# Altium integrated library ON Semi Transient Voltage Suppressors (TVS).IntLib: 730 symbols (part 13 of 17)
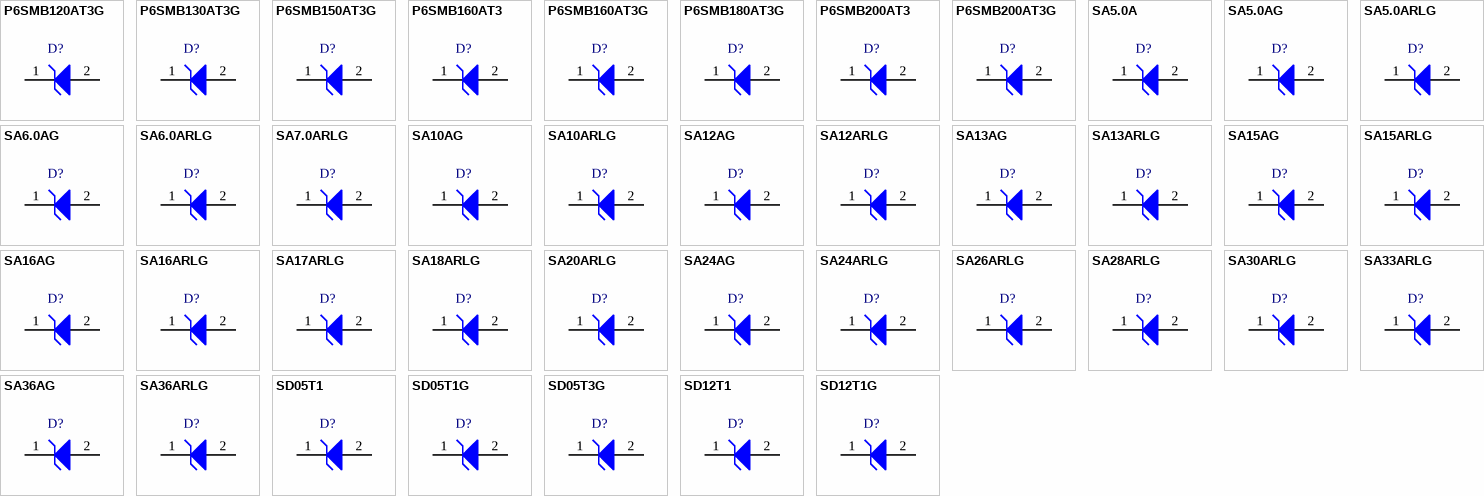
[diagram p30: symbols P6SMB120AT3G to SD12T1G]

## SA5.0AG
designator D?
500 W Peak Power, MiniMOSORB(TM) Zener Transient Voltage Suppressor, Unidirectional, 2-Pin Axial_Lead, Pb-Free, Bulk Box; Manufacturer: On Semiconductor; PartNumber: SA5.0AG; IR Max (uA): 600; PPK Max (W): 500; V(BR) Typ (V): 6.7; DatasheetVersion: Rev. 13; PackageVersion: Rev. A, 02/2007; PackageReference: AXIAL_LEAD-2-59AA-01; PackageDescription: 2-Pin, Axial Lead, Diameter 3.1 mm; Supplier 1: Digi-Key; Supplier Part Number 1: SA5.0AGOS-ND; Supplier 2: Farnell; Supplier Part Number 2: 1459172; Supplier 3: Newark; Supplier Part Number 3: 42K2589; Supplier 4: Mouser; Supplier Part Number 4: 863-SA5.0AG; Direction: Unidirectional; Packing: Bulk Box; RoHS: Pb-Free; Mounting Technology: Through Hole; ComponentLink1Description: Manufacturer URL; ComponentLink1URL: http://www.onsemi.com/; ComponentLink2Description: Datasheet; ComponentLink2URL: http://www.onsemi.com/pub_link/Collateral/SA5.0A-D.PDF; ComponentLink3Description: Package Specification; ComponentLink3URL: http://www.onsemi.com/pub_link/Collateral/59AA.PDF
footprint ONSC-AXIAL_LEAD-2-59AA-01_P (AXIAL, 2-Leads, Diameter 3.1mm)
pins: 1 K, 2 A

## SA5.0ARLG
designator D?
500 W Peak Power, MiniMOSORB(TM) Zener Transient Voltage Suppressor, Unidirectional, 2-Pin Axial_Lead, Pb-Free, Tape and Reel; Manufacturer: On Semiconductor; PartNumber: SA5.0ARLG; IR Max (uA): 600; PPK Max (W): 500; V(BR) Typ (V): 6.7; DatasheetVersion: Rev. 13; PackageVersion: Rev. A, 02/2007; PackageReference: AXIAL_LEAD-2-59AA-01; PackageDescription: 2-Pin, Axial Lead, Diameter 3.1 mm; Supplier 1: Digi-Key; Supplier Part Number 1: SA5.0ARLGOSTR-ND; Supplier 2: Digi-Key; Supplier Part Number 2: SA5.0ARLGOSCT-ND; Supplier 3: Farnell; Supplier Part Number 3: 1150347; Supplier 4: Newark; Supplier Part Number 4: 42K2590; Supplier 5: Mouser; Supplier Part Number 5: 863-SA5.0ARLG; Direction: Unidirectional; Packing: Tape and Reel; RoHS: Pb-Free; Mounting Technology: Through Hole; ComponentLink1Description: Manufacturer URL; ComponentLink1URL: http://www.onsemi.com/; ComponentLink2Description: Datasheet; ComponentLink2URL: http://www.onsemi.com/pub_link/Collateral/SA5.0A-D.PDF; ComponentLink3Description: Package Specification; ComponentLink3URL: http://www.onsemi.com/pub_link/Collateral/59AA.PDF
footprint ONSC-AXIAL_LEAD-2-59AA-01_P (AXIAL, 2-Leads, Diameter 3.1mm)
pins: 1 K, 2 A

## SA6.0AG
designator D?
500 W Peak Power, MiniMOSORB(TM) Zener Transient Voltage Suppressor, Unidirectional, 2-Pin Axial_Lead, Pb-Free, Bulk Box; Manufacturer: On Semiconductor; PartNumber: SA6.0AG; IR Max (uA): 600; PPK Max (W): 500; V(BR) Typ (V): 7.02; DatasheetVersion: Rev. 13; PackageVersion: Rev. A, 02/2007; PackageReference: AXIAL_LEAD-2-59AA-01; PackageDescription: 2-Pin, Axial Lead, Diameter 3.1 mm; Supplier 1: Digi-Key; Supplier Part Number 1: SA6.0AGOS-ND; Supplier 2: Farnell; Supplier Part Number 2: 1150348; Supplier 3: Newark; Supplier Part Number 3: 42K2605; Supplier 4: Mouser; Supplier Part Number 4: 863-SA6.0AG; Direction: Unidirectional; Packing: Bulk Box; RoHS: Pb-Free; Mounting Technology: Through Hole; ComponentLink1Description: Manufacturer URL; ComponentLink1URL: http://www.onsemi.com/; ComponentLink2Description: Datasheet; ComponentLink2URL: http://www.onsemi.com/pub_link/Collateral/SA5.0A-D.PDF; ComponentLink3Description: Package Specification; ComponentLink3URL: http://www.onsemi.com/pub_link/Collateral/59AA.PDF
footprint ONSC-AXIAL_LEAD-2-59AA-01_P (AXIAL, 2-Leads, Diameter 3.1mm)
pins: 1 K, 2 A

## SA6.0ARLG
designator D?
500 W Peak Power, MiniMOSORB(TM) Zener Transient Voltage Suppressor, Unidirectional, 2-Pin Axial_Lead, Pb-Free, Tape and Reel; Manufacturer: On Semiconductor; PartNumber: SA6.0ARLG; IR Max (uA): 600; PPK Max (W): 500; V(BR) Typ (V): 7.02; DatasheetVersion: Rev. 13; PackageVersion: Rev. A, 02/2007; PackageReference: AXIAL_LEAD-2-59AA-01; PackageDescription: 2-Pin, Axial Lead, Diameter 3.1 mm; Supplier 1: Digi-Key; Supplier Part Number 1: SA6.0ARLG-ND; Supplier 2: Newark; Supplier Part Number 2: 42K2606; Supplier 3: Mouser; Supplier Part Number 3: 863-SA6.0ARLG; Direction: Unidirectional; Packing: Tape and Reel; RoHS: Pb-Free; Mounting Technology: Through Hole; ComponentLink1Description: Manufacturer URL; ComponentLink1URL: http://www.onsemi.com/; ComponentLink2Description: Datasheet; ComponentLink2URL: http://www.onsemi.com/pub_link/Collateral/SA5.0A-D.PDF; ComponentLink3Description: Package Specification; ComponentLink3URL: http://www.onsemi.com/pub_link/Collateral/59AA.PDF
footprint ONSC-AXIAL_LEAD-2-59AA-01_P (AXIAL, 2-Leads, Diameter 3.1mm)
pins: 1 K, 2 A

## SA7.0ARLG
designator D?
500 W Peak Power, MiniMOSORB(TM) Zener Transient Voltage Suppressor, Unidirectional, 2-Pin Axial_Lead, Pb-Free, Tape and Reel; Manufacturer: On Semiconductor; PartNumber: SA7.0ARLG; IR Max (uA): 150; PPK Max (W): 500; V(BR) Typ (V): 8.19; DatasheetVersion: Rev. 13; PackageVersion: Rev. A, 02/2007; PackageReference: AXIAL_LEAD-2-59AA-01; PackageDescription: 2-Pin, Axial Lead, Diameter 3.1 mm; Supplier 1: Digi-Key; Supplier Part Number 1: SA7.0ARLG-ND; Supplier 2: Newark; Supplier Part Number 2: 42K2608; Supplier 3: Mouser; Supplier Part Number 3: 863-SA7.0ARLG; Direction: Unidirectional; Packing: Tape and Reel; RoHS: Pb-Free; Mounting Technology: Through Hole; ComponentLink1Description: Manufacturer URL; ComponentLink1URL: http://www.onsemi.com/; ComponentLink2Description: Datasheet; ComponentLink2URL: http://www.onsemi.com/pub_link/Collateral/SA5.0A-D.PDF; ComponentLink3Description: Package Specification; ComponentLink3URL: http://www.onsemi.com/pub_link/Collateral/59AA.PDF
footprint ONSC-AXIAL_LEAD-2-59AA-01_P (AXIAL, 2-Leads, Diameter 3.1mm)
pins: 1 K, 2 A

## SA10AG
designator D?
500 W Peak Power, MiniMOSORB(TM) Zener Transient Voltage Suppressor, Unidirectional, 2-Pin Axial_Lead, Pb-Free, Bulk Box; Manufacturer: On Semiconductor; PartNumber: SA10AG; IR Max (uA): 1; PPK Max (W): 500; V(BR) Typ (V): 11.7; DatasheetVersion: Rev. 13; PackageVersion: Rev. A, 02/2007; PackageReference: AXIAL_LEAD-2-59AA-01; PackageDescription: 2-Pin, Axial Lead, Diameter 3.1 mm; Supplier 1: Digi-Key; Supplier Part Number 1: SA10AGOS-ND; Supplier 2: Mouser; Supplier Part Number 2: 863-SA10AG; Direction: Unidirectional; Packing: Bulk Box; RoHS: Pb-Free; Mounting Technology: Through Hole; ComponentLink1Description: Manufacturer URL; ComponentLink1URL: http://www.onsemi.com/; ComponentLink2Description: Datasheet; ComponentLink2URL: http://www.onsemi.com/pub_link/Collateral/SA5.0A-D.PDF; ComponentLink3Description: Package Specification; ComponentLink3URL: http://www.onsemi.com/pub_link/Collateral/59AA.PDF
footprint ONSC-AXIAL_LEAD-2-59AA-01_P (AXIAL, 2-Leads, Diameter 3.1mm)
pins: 1 K, 2 A

## SA10ARLG
designator D?
500 W Peak Power, MiniMOSORB(TM) Zener Transient Voltage Suppressor, Unidirectional, 2-Pin Axial_Lead, Pb-Free, Tape and Reel; Manufacturer: On Semiconductor; PartNumber: SA10ARLG; IR Max (uA): 1; PPK Max (W): 500; V(BR) Typ (V): 11.7; DatasheetVersion: Rev. 13; PackageVersion: Rev. A, 02/2007; PackageReference: AXIAL_LEAD-2-59AA-01; PackageDescription: 2-Pin, Axial Lead, Diameter 3.1 mm; Supplier 1: Digi-Key; Supplier Part Number 1: SA10ARLG-ND; Supplier 2: Newark; Supplier Part Number 2: 42K2558; Supplier 3: Mouser; Supplier Part Number 3: 863-SA10ARLG; Direction: Unidirectional; Packing: Tape and Reel; RoHS: Pb-Free; Mounting Technology: Through Hole; ComponentLink1Description: Manufacturer URL; ComponentLink1URL: http://www.onsemi.com/; ComponentLink2Description: Datasheet; ComponentLink2URL: http://www.onsemi.com/pub_link/Collateral/SA5.0A-D.PDF; ComponentLink3Description: Package Specification; ComponentLink3URL: http://www.onsemi.com/pub_link/Collateral/59AA.PDF
footprint ONSC-AXIAL_LEAD-2-59AA-01_P (AXIAL, 2-Leads, Diameter 3.1mm)
pins: 1 K, 2 A

## SA12AG
designator D?
500 W Peak Power, MiniMOSORB(TM) Zener Transient Voltage Suppressor, Unidirectional, 2-Pin Axial_Lead, Pb-Free, Bulk Box; Manufacturer: On Semiconductor; PartNumber: SA12AG; IR Max (uA): 1; PPK Max (W): 500; V(BR) Typ (V): 14; DatasheetVersion: Rev. 13; PackageVersion: Rev. A, 02/2007; PackageReference: AXIAL_LEAD-2-59AA-01; PackageDescription: 2-Pin, Axial Lead, Diameter 3.1 mm; Supplier 1: Digi-Key; Supplier Part Number 1: SA12AGOS-ND; Supplier 2: Newark; Supplier Part Number 2: 42K2561; Supplier 3: Mouser; Supplier Part Number 3: 863-SA12AG; Direction: Unidirectional; Packing: Bulk Box; RoHS: Pb-Free; Mounting Technology: Through Hole; ComponentLink1Description: Manufacturer URL; ComponentLink1URL: http://www.onsemi.com/; ComponentLink2Description: Datasheet; ComponentLink2URL: http://www.onsemi.com/pub_link/Collateral/SA5.0A-D.PDF; ComponentLink3Description: Package Specification; ComponentLink3URL: http://www.onsemi.com/pub_link/Collateral/59AA.PDF
footprint ONSC-AXIAL_LEAD-2-59AA-01_P (AXIAL, 2-Leads, Diameter 3.1mm)
pins: 1 K, 2 A

## SA12ARLG
designator D?
500 W Peak Power, MiniMOSORB(TM) Zener Transient Voltage Suppressor, Unidirectional, 2-Pin Axial_Lead, Pb-Free, Tape and Reel; Manufacturer: On Semiconductor; PartNumber: SA12ARLG; IR Max (uA): 1; PPK Max (W): 500; V(BR) Typ (V): 14; DatasheetVersion: Rev. 13; PackageVersion: Rev. A, 02/2007; PackageReference: AXIAL_LEAD-2-59AA-01; PackageDescription: 2-Pin, Axial Lead, Diameter 3.1 mm; Supplier 1: Digi-Key; Supplier Part Number 1: SA12ARLG-ND; Supplier 2: Newark; Supplier Part Number 2: 42K2562; Supplier 3: Mouser; Supplier Part Number 3: 863-SA12ARLG; Direction: Unidirectional; Packing: Tape and Reel; RoHS: Pb-Free; Mounting Technology: Through Hole; ComponentLink1Description: Manufacturer URL; ComponentLink1URL: http://www.onsemi.com/; ComponentLink2Description: Datasheet; ComponentLink2URL: http://www.onsemi.com/pub_link/Collateral/SA5.0A-D.PDF; ComponentLink3Description: Package Specification; ComponentLink3URL: http://www.onsemi.com/pub_link/Collateral/59AA.PDF
footprint ONSC-AXIAL_LEAD-2-59AA-01_P (AXIAL, 2-Leads, Diameter 3.1mm)
pins: 1 K, 2 A

## SA13AG
designator D?
500 W Peak Power, MiniMOSORB(TM) Zener Transient Voltage Suppressor, Unidirectional, 2-Pin Axial_Lead, Pb-Free, Bulk Box; Manufacturer: On Semiconductor; PartNumber: SA13AG; IR Max (uA): 1; PPK Max (W): 500; V(BR) Typ (V): 15.15; DatasheetVersion: Rev. 13; PackageVersion: Rev. A, 02/2007; PackageReference: AXIAL_LEAD-2-59AA-01; PackageDescription: 2-Pin, Axial Lead, Diameter 3.1 mm; Supplier 1: Digi-Key; Supplier Part Number 1: SA13AGOS-ND; Supplier 2: Mouser; Supplier Part Number 2: 863-SA13AG; Direction: Unidirectional; Packing: Bulk Box; RoHS: Pb-Free; Mounting Technology: Through Hole; ComponentLink1Description: Manufacturer URL; ComponentLink1URL: http://www.onsemi.com/; ComponentLink2Description: Datasheet; ComponentLink2URL: http://www.onsemi.com/pub_link/Collateral/SA5.0A-D.PDF; ComponentLink3Description: Package Specification; ComponentLink3URL: http://www.onsemi.com/pub_link/Collateral/59AA.PDF
footprint ONSC-AXIAL_LEAD-2-59AA-01_P (AXIAL, 2-Leads, Diameter 3.1mm)
pins: 1 K, 2 A

## SA13ARLG
designator D?
500 W Peak Power, MiniMOSORB(TM) Zener Transient Voltage Suppressor, Unidirectional, 2-Pin Axial_Lead, Pb-Free, Tape and Reel; Manufacturer: On Semiconductor; PartNumber: SA13ARLG; IR Max (uA): 1; PPK Max (W): 500; V(BR) Typ (V): 15.15; DatasheetVersion: Rev. 13; PackageVersion: Rev. A, 02/2007; PackageReference: AXIAL_LEAD-2-59AA-01; PackageDescription: 2-Pin, Axial Lead, Diameter 3.1 mm; Supplier 1: Digi-Key; Supplier Part Number 1: SA13ARLG-ND; Supplier 2: Mouser; Supplier Part Number 2: 863-SA13ARLG; Direction: Unidirectional; Packing: Tape and Reel; RoHS: Pb-Free; Mounting Technology: Through Hole; ComponentLink1Description: Manufacturer URL; ComponentLink1URL: http://www.onsemi.com/; ComponentLink2Description: Datasheet; ComponentLink2URL: http://www.onsemi.com/pub_link/Collateral/SA5.0A-D.PDF; ComponentLink3Description: Package Specification; ComponentLink3URL: http://www.onsemi.com/pub_link/Collateral/59AA.PDF
footprint ONSC-AXIAL_LEAD-2-59AA-01_P (AXIAL, 2-Leads, Diameter 3.1mm)
pins: 1 K, 2 A

## SA15AG
designator D?
500 W Peak Power, MiniMOSORB(TM) Zener Transient Voltage Suppressor, Unidirectional, 2-Pin Axial_Lead, Pb-Free, Bulk Box; Manufacturer: On Semiconductor; PartNumber: SA15AG; IR Max (uA): 1; PPK Max (W): 500; V(BR) Typ (V): 17.6; DatasheetVersion: Rev. 13; PackageVersion: Rev. A, 02/2007; PackageReference: AXIAL_LEAD-2-59AA-01; PackageDescription: 2-Pin, Axial Lead, Diameter 3.1 mm; Supplier 1: Digi-Key; Supplier Part Number 1: SA15AGOS-ND; Supplier 2: Newark; Supplier Part Number 2: 42K2566; Supplier 3: Mouser; Supplier Part Number 3: 863-SA15AG; Direction: Unidirectional; Packing: Bulk Box; RoHS: Pb-Free; Mounting Technology: Through Hole; ComponentLink1Description: Manufacturer URL; ComponentLink1URL: http://www.onsemi.com/; ComponentLink2Description: Datasheet; ComponentLink2URL: http://www.onsemi.com/pub_link/Collateral/SA5.0A-D.PDF; ComponentLink3Description: Package Specification; ComponentLink3URL: http://www.onsemi.com/pub_link/Collateral/59AA.PDF
footprint ONSC-AXIAL_LEAD-2-59AA-01_P (AXIAL, 2-Leads, Diameter 3.1mm)
pins: 1 K, 2 A

## SA15ARLG
designator D?
500 W Peak Power, MiniMOSORB(TM) Zener Transient Voltage Suppressor, Unidirectional, 2-Pin Axial_Lead, Pb-Free, Tape and Reel; Manufacturer: On Semiconductor; PartNumber: SA15ARLG; IR Max (uA): 1; PPK Max (W): 500; V(BR) Typ (V): 17.6; DatasheetVersion: Rev. 13; PackageVersion: Rev. A, 02/2007; PackageReference: AXIAL_LEAD-2-59AA-01; PackageDescription: 2-Pin, Axial Lead, Diameter 3.1 mm; Supplier 1: Digi-Key; Supplier Part Number 1: SA15ARLG-ND; Supplier 2: Newark; Supplier Part Number 2: 42K2567; Supplier 3: Mouser; Supplier Part Number 3: 863-SA15ARLG; Direction: Unidirectional; Packing: Tape and Reel; RoHS: Pb-Free; Mounting Technology: Through Hole; ComponentLink1Description: Manufacturer URL; ComponentLink1URL: http://www.onsemi.com/; ComponentLink2Description: Datasheet; ComponentLink2URL: http://www.onsemi.com/pub_link/Collateral/SA5.0A-D.PDF; ComponentLink3Description: Package Specification; ComponentLink3URL: http://www.onsemi.com/pub_link/Collateral/59AA.PDF
footprint ONSC-AXIAL_LEAD-2-59AA-01_P (AXIAL, 2-Leads, Diameter 3.1mm)
pins: 1 K, 2 A

## SA16AG
designator D?
500 W Peak Power, MiniMOSORB(TM) Zener Transient Voltage Suppressor, Unidirectional, 2-Pin Axial_Lead, Pb-Free, Bulk Box; Manufacturer: On Semiconductor; PartNumber: SA16AG; IR Max (uA): 1; PPK Max (W): 500; V(BR) Typ (V): 18.75; DatasheetVersion: Rev. 13; PackageVersion: Rev. A, 02/2007; PackageReference: AXIAL_LEAD-2-59AA-01; PackageDescription: 2-Pin, Axial Lead, Diameter 3.1 mm; Supplier 1: Digi-Key; Supplier Part Number 1: SA16AG-ND; Supplier 2: Mouser; Supplier Part Number 2: 863-SA16AG; Direction: Unidirectional; Packing: Bulk Box; RoHS: Pb-Free; Mounting Technology: Through Hole; ComponentLink1Description: Manufacturer URL; ComponentLink1URL: http://www.onsemi.com/; ComponentLink2Description: Datasheet; ComponentLink2URL: http://www.onsemi.com/pub_link/Collateral/SA5.0A-D.PDF; ComponentLink3Description: Package Specification; ComponentLink3URL: http://www.onsemi.com/pub_link/Collateral/59AA.PDF
footprint ONSC-AXIAL_LEAD-2-59AA-01_P (AXIAL, 2-Leads, Diameter 3.1mm)
pins: 1 K, 2 A

## SA16ARLG
designator D?
500 W Peak Power, MiniMOSORB(TM) Zener Transient Voltage Suppressor, Unidirectional, 2-Pin Axial_Lead, Pb-Free, Tape and Reel; Manufacturer: On Semiconductor; PartNumber: SA16ARLG; IR Max (uA): 1; PPK Max (W): 500; V(BR) Typ (V): 18.75; DatasheetVersion: Rev. 13; PackageVersion: Rev. A, 02/2007; PackageReference: AXIAL_LEAD-2-59AA-01; PackageDescription: 2-Pin, Axial Lead, Diameter 3.1 mm; Supplier 1: Digi-Key; Supplier Part Number 1: SA16ARLGOSTR-ND; Supplier 2: Digi-Key; Supplier Part Number 2: SA16ARLGOSCT-ND; Supplier 3: Mouser; Supplier Part Number 3: 863-SA16ARLG; Direction: Unidirectional; Packing: Tape and Reel; RoHS: Pb-Free; Mounting Technology: Through Hole; ComponentLink1Description: Manufacturer URL; ComponentLink1URL: http://www.onsemi.com/; ComponentLink2Description: Datasheet; ComponentLink2URL: http://www.onsemi.com/pub_link/Collateral/SA5.0A-D.PDF; ComponentLink3Description: Package Specification; ComponentLink3URL: http://www.onsemi.com/pub_link/Collateral/59AA.PDF
footprint ONSC-AXIAL_LEAD-2-59AA-01_P (AXIAL, 2-Leads, Diameter 3.1mm)
pins: 1 K, 2 A

## SA17ARLG
designator D?
500 W Peak Power, MiniMOSORB(TM) Zener Transient Voltage Suppressor, Unidirectional, 2-Pin Axial_Lead, Pb-Free, Tape and Reel; Manufacturer: On Semiconductor; PartNumber: SA17ARLG; IR Max (uA): 1; PPK Max (W): 500; V(BR) Typ (V): 19.9; DatasheetVersion: Rev. 13; PackageVersion: Rev. A, 02/2007; PackageReference: AXIAL_LEAD-2-59AA-01; PackageDescription: 2-Pin, Axial Lead, Diameter 3.1 mm; Supplier 1: Digi-Key; Supplier Part Number 1: SA17ARLG-ND; Supplier 2: Newark; Supplier Part Number 2: 42K2570; Supplier 3: Mouser; Supplier Part Number 3: 863-SA17ARLG; Direction: Unidirectional; Packing: Tape and Reel; RoHS: Pb-Free; Mounting Technology: Through Hole; ComponentLink1Description: Manufacturer URL; ComponentLink1URL: http://www.onsemi.com/; ComponentLink2Description: Datasheet; ComponentLink2URL: http://www.onsemi.com/pub_link/Collateral/SA5.0A-D.PDF; ComponentLink3Description: Package Specification; ComponentLink3URL: http://www.onsemi.com/pub_link/Collateral/59AA.PDF
footprint ONSC-AXIAL_LEAD-2-59AA-01_P (AXIAL, 2-Leads, Diameter 3.1mm)
pins: 1 K, 2 A

## SA18ARLG
designator D?
500 W Peak Power, MiniMOSORB(TM) Zener Transient Voltage Suppressor, Unidirectional, 2-Pin Axial_Lead, Pb-Free, Tape and Reel; Manufacturer: On Semiconductor; PartNumber: SA18ARLG; IR Max (uA): 1; PPK Max (W): 500; V(BR) Typ (V): 21.05; DatasheetVersion: Rev. 13; PackageVersion: Rev. A, 02/2007; PackageReference: AXIAL_LEAD-2-59AA-01; PackageDescription: 2-Pin, Axial Lead, Diameter 3.1 mm; Supplier 1: Digi-Key; Supplier Part Number 1: SA18ARLG-ND; Supplier 2: Mouser; Supplier Part Number 2: 863-SA18ARLG; Direction: Unidirectional; Packing: Tape and Reel; RoHS: Pb-Free; Mounting Technology: Through Hole; ComponentLink1Description: Manufacturer URL; ComponentLink1URL: http://www.onsemi.com/; ComponentLink2Description: Datasheet; ComponentLink2URL: http://www.onsemi.com/pub_link/Collateral/SA5.0A-D.PDF; ComponentLink3Description: Package Specification; ComponentLink3URL: http://www.onsemi.com/pub_link/Collateral/59AA.PDF
footprint ONSC-AXIAL_LEAD-2-59AA-01_P (AXIAL, 2-Leads, Diameter 3.1mm)
pins: 1 K, 2 A

## SA20ARLG
designator D?
500 W Peak Power, MiniMOSORB(TM) Zener Transient Voltage Suppressor, Unidirectional, 2-Pin Axial_Lead, Pb-Free, Tape and Reel; Manufacturer: On Semiconductor; PartNumber: SA20ARLG; IR Max (uA): 1; PPK Max (W): 500; V(BR) Typ (V): 23.35; DatasheetVersion: Rev. 13; PackageVersion: Rev. A, 02/2007; PackageReference: AXIAL_LEAD-2-59AA-01; PackageDescription: 2-Pin, Axial Lead, Diameter 3.1 mm; Supplier 1: Digi-Key; Supplier Part Number 1: SA20ARLG-ND; Supplier 2: Mouser; Supplier Part Number 2: 863-SA20ARLG; Direction: Unidirectional; Packing: Tape and Reel; RoHS: Pb-Free; Mounting Technology: Through Hole; ComponentLink1Description: Manufacturer URL; ComponentLink1URL: http://www.onsemi.com/; ComponentLink2Description: Datasheet; ComponentLink2URL: http://www.onsemi.com/pub_link/Collateral/SA5.0A-D.PDF; ComponentLink3Description: Package Specification; ComponentLink3URL: http://www.onsemi.com/pub_link/Collateral/59AA.PDF
footprint ONSC-AXIAL_LEAD-2-59AA-01_P (AXIAL, 2-Leads, Diameter 3.1mm)
pins: 1 K, 2 A

## SA24AG
designator D?
500 W Peak Power, MiniMOSORB(TM) Zener Transient Voltage Suppressor, Unidirectional, 2-Pin Axial_Lead, Pb-Free, Bulk Box; Manufacturer: On Semiconductor; PartNumber: SA24AG; IR Max (uA): 1; PPK Max (W): 500; V(BR) Typ (V): 28.1; DatasheetVersion: Rev. 13; PackageVersion: Rev. A, 02/2007; PackageReference: AXIAL_LEAD-2-59AA-01; PackageDescription: 2-Pin, Axial Lead, Diameter 3.1 mm; Supplier 1: Digi-Key; Supplier Part Number 1: SA24AGOS-ND; Supplier 2: Farnell; Supplier Part Number 2: 1126279; Supplier 3: Newark; Supplier Part Number 3: 42K2574; Supplier 4: Mouser; Supplier Part Number 4: 863-SA24AG; Direction: Unidirectional; Packing: Bulk Box; RoHS: Pb-Free; Mounting Technology: Through Hole; ComponentLink1Description: Manufacturer URL; ComponentLink1URL: http://www.onsemi.com/; ComponentLink2Description: Datasheet; ComponentLink2URL: http://www.onsemi.com/pub_link/Collateral/SA5.0A-D.PDF; ComponentLink3Description: Package Specification; ComponentLink3URL: http://www.onsemi.com/pub_link/Collateral/59AA.PDF
footprint ONSC-AXIAL_LEAD-2-59AA-01_P (AXIAL, 2-Leads, Diameter 3.1mm)
pins: 1 K, 2 A

## SA24ARLG
designator D?
500 W Peak Power, MiniMOSORB(TM) Zener Transient Voltage Suppressor, Unidirectional, 2-Pin Axial_Lead, Pb-Free, Tape and Reel; Manufacturer: On Semiconductor; PartNumber: SA24ARLG; IR Max (uA): 1; PPK Max (W): 500; V(BR) Typ (V): 28.1; DatasheetVersion: Rev. 13; PackageVersion: Rev. A, 02/2007; PackageReference: AXIAL_LEAD-2-59AA-01; PackageDescription: 2-Pin, Axial Lead, Diameter 3.1 mm; Supplier 1: Digi-Key; Supplier Part Number 1: SA24ARLG-ND; Supplier 2: Newark; Supplier Part Number 2: 42K2575; Supplier 3: Mouser; Supplier Part Number 3: 863-SA24ARLG; Direction: Unidirectional; Packing: Tape and Reel; RoHS: Pb-Free; Mounting Technology: Through Hole; ComponentLink1Description: Manufacturer URL; ComponentLink1URL: http://www.onsemi.com/; ComponentLink2Description: Datasheet; ComponentLink2URL: http://www.onsemi.com/pub_link/Collateral/SA5.0A-D.PDF; ComponentLink3Description: Package Specification; ComponentLink3URL: http://www.onsemi.com/pub_link/Collateral/59AA.PDF
footprint ONSC-AXIAL_LEAD-2-59AA-01_P (AXIAL, 2-Leads, Diameter 3.1mm)
pins: 1 K, 2 A

## SA26ARLG
designator D?
500 W Peak Power, MiniMOSORB(TM) Zener Transient Voltage Suppressor, Unidirectional, 2-Pin Axial_Lead, Pb-Free, Tape and Reel; Manufacturer: On Semiconductor; PartNumber: SA26ARLG; IR Max (uA): 1; PPK Max (W): 500; V(BR) Typ (V): 30.4; DatasheetVersion: Rev. 13; PackageVersion: Rev. A, 02/2007; PackageReference: AXIAL_LEAD-2-59AA-01; PackageDescription: 2-Pin, Axial Lead, Diameter 3.1 mm; Supplier 1: Digi-Key; Supplier Part Number 1: SA26ARLG-ND; Supplier 2: Newark; Supplier Part Number 2: 42K2576; Supplier 3: Mouser; Supplier Part Number 3: 863-SA26ARLG; Direction: Unidirectional; Packing: Tape and Reel; RoHS: Pb-Free; Mounting Technology: Through Hole; ComponentLink1Description: Manufacturer URL; ComponentLink1URL: http://www.onsemi.com/; ComponentLink2Description: Datasheet; ComponentLink2URL: http://www.onsemi.com/pub_link/Collateral/SA5.0A-D.PDF; ComponentLink3Description: Package Specification; ComponentLink3URL: http://www.onsemi.com/pub_link/Collateral/59AA.PDF
footprint ONSC-AXIAL_LEAD-2-59AA-01_P (AXIAL, 2-Leads, Diameter 3.1mm)
pins: 1 K, 2 A

## SA28ARLG
designator D?
500 W Peak Power, MiniMOSORB(TM) Zener Transient Voltage Suppressor, Unidirectional, 2-Pin Axial_Lead, Pb-Free, Tape and Reel; Manufacturer: On Semiconductor; PartNumber: SA28ARLG; IR Max (uA): 1; PPK Max (W): 500; V(BR) Typ (V): 32.75; DatasheetVersion: Rev. 13; PackageVersion: Rev. A, 02/2007; PackageReference: AXIAL_LEAD-2-59AA-01; PackageDescription: 2-Pin, Axial Lead, Diameter 3.1 mm; Supplier 1: Digi-Key; Supplier Part Number 1: SA28ARLGOSTR-ND; Supplier 2: Digi-Key; Supplier Part Number 2: SA28ARLGOSCT-ND; Supplier 3: Newark; Supplier Part Number 3: 42K2578; Supplier 4: Mouser; Supplier Part Number 4: 863-SA28ARLG; Direction: Unidirectional; Packing: Tape and Reel; RoHS: Pb-Free; Mounting Technology: Through Hole; ComponentLink1Description: Manufacturer URL; ComponentLink1URL: http://www.onsemi.com/; ComponentLink2Description: Datasheet; ComponentLink2URL: http://www.onsemi.com/pub_link/Collateral/SA5.0A-D.PDF; ComponentLink3Description: Package Specification; ComponentLink3URL: http://www.onsemi.com/pub_link/Collateral/59AA.PDF
footprint ONSC-AXIAL_LEAD-2-59AA-01_P (AXIAL, 2-Leads, Diameter 3.1mm)
pins: 1 K, 2 A

## SA30ARLG
designator D?
500 W Peak Power, MiniMOSORB(TM) Zener Transient Voltage Suppressor, Unidirectional, 2-Pin Axial_Lead, Pb-Free, Tape and Reel; Manufacturer: On Semiconductor; PartNumber: SA30ARLG; IR Max (uA): 1; PPK Max (W): 500; V(BR) Typ (V): 35.05; DatasheetVersion: Rev. 13; PackageVersion: Rev. A, 02/2007; PackageReference: AXIAL_LEAD-2-59AA-01; PackageDescription: 2-Pin, Axial Lead, Diameter 3.1 mm; Supplier 1: Digi-Key; Supplier Part Number 1: SA30ARLG-ND; Supplier 2: Newark; Supplier Part Number 2: 42K2579; Supplier 3: Mouser; Supplier Part Number 3: 863-SA30ARLG; Direction: Unidirectional; Packing: Tape and Reel; RoHS: Pb-Free; Mounting Technology: Through Hole; ComponentLink1Description: Manufacturer URL; ComponentLink1URL: http://www.onsemi.com/; ComponentLink2Description: Datasheet; ComponentLink2URL: http://www.onsemi.com/pub_link/Collateral/SA5.0A-D.PDF; ComponentLink3Description: Package Specification; ComponentLink3URL: http://www.onsemi.com/pub_link/Collateral/59AA.PDF
footprint ONSC-AXIAL_LEAD-2-59AA-01_P (AXIAL, 2-Leads, Diameter 3.1mm)
pins: 1 K, 2 A

## SA33ARLG
designator D?
500 W Peak Power, MiniMOSORB(TM) Zener Transient Voltage Suppressor, Unidirectional, 2-Pin Axial_Lead, Pb-Free, Tape and Reel; Manufacturer: On Semiconductor; PartNumber: SA33ARLG; IR Max (uA): 1; PPK Max (W): 500; V(BR) Typ (V): 38.65; DatasheetVersion: Rev. 13; PackageVersion: Rev. A, 02/2007; PackageReference: AXIAL_LEAD-2-59AA-01; PackageDescription: 2-Pin, Axial Lead, Diameter 3.1 mm; Supplier 1: Digi-Key; Supplier Part Number 1: SA33ARLG-ND; Supplier 2: Mouser; Supplier Part Number 2: 863-SA33ARLG; Direction: Unidirectional; Packing: Tape and Reel; RoHS: Pb-Free; Mounting Technology: Through Hole; ComponentLink1Description: Manufacturer URL; ComponentLink1URL: http://www.onsemi.com/; ComponentLink2Description: Datasheet; ComponentLink2URL: http://www.onsemi.com/pub_link/Collateral/SA5.0A-D.PDF; ComponentLink3Description: Package Specification; ComponentLink3URL: http://www.onsemi.com/pub_link/Collateral/59AA.PDF
footprint ONSC-AXIAL_LEAD-2-59AA-01_P (AXIAL, 2-Leads, Diameter 3.1mm)
pins: 1 K, 2 A

## SA36AG
designator D?
500 W Peak Power, MiniMOSORB(TM) Zener Transient Voltage Suppressor, Unidirectional, 2-Pin Axial_Lead, Pb-Free, Bulk Box; Manufacturer: On Semiconductor; PartNumber: SA36AG; IR Max (uA): 1; PPK Max (W): 500; V(BR) Typ (V): 42.1; DatasheetVersion: Rev. 13; PackageVersion: Rev. A, 02/2007; PackageReference: AXIAL_LEAD-2-59AA-01; PackageDescription: 2-Pin, Axial Lead, Diameter 3.1 mm; Supplier 1: Digi-Key; Supplier Part Number 1: SA36AGOS-ND; Supplier 2: Newark; Supplier Part Number 2: 42K2583; Supplier 3: Mouser; Supplier Part Number 3: 863-SA36AG; Direction: Unidirectional; Packing: Bulk Box; RoHS: Pb-Free; Mounting Technology: Through Hole; ComponentLink1Description: Manufacturer URL; ComponentLink1URL: http://www.onsemi.com/; ComponentLink2Description: Datasheet; ComponentLink2URL: http://www.onsemi.com/pub_link/Collateral/SA5.0A-D.PDF; ComponentLink3Description: Package Specification; ComponentLink3URL: http://www.onsemi.com/pub_link/Collateral/59AA.PDF
footprint ONSC-AXIAL_LEAD-2-59AA-01_P (AXIAL, 2-Leads, Diameter 3.1mm)
pins: 1 K, 2 A

## SA36ARLG
designator D?
500 W Peak Power, MiniMOSORB(TM) Zener Transient Voltage Suppressor, Unidirectional, 2-Pin Axial_Lead, Pb-Free, Tape and Reel; Manufacturer: On Semiconductor; PartNumber: SA36ARLG; IR Max (uA): 1; PPK Max (W): 500; V(BR) Typ (V): 42.1; DatasheetVersion: Rev. 13; PackageVersion: Rev. A, 02/2007; PackageReference: AXIAL_LEAD-2-59AA-01; PackageDescription: 2-Pin, Axial Lead, Diameter 3.1 mm; Supplier 1: Digi-Key; Supplier Part Number 1: SA36ARLG-ND; Supplier 2: Mouser; Supplier Part Number 2: 863-SA36ARLG; Direction: Unidirectional; Packing: Tape and Reel; RoHS: Pb-Free; Mounting Technology: Through Hole; ComponentLink1Description: Manufacturer URL; ComponentLink1URL: http://www.onsemi.com/; ComponentLink2Description: Datasheet; ComponentLink2URL: http://www.onsemi.com/pub_link/Collateral/SA5.0A-D.PDF; ComponentLink3Description: Package Specification; ComponentLink3URL: http://www.onsemi.com/pub_link/Collateral/59AA.PDF
footprint ONSC-AXIAL_LEAD-2-59AA-01_P (AXIAL, 2-Leads, Diameter 3.1mm)
pins: 1 K, 2 A

## SD05T1
designator D?
Transient Voltage Suppressor Diode, for ESD Protection, 2-Pin SOD-323, Tape and Reel; Manufacturer: On Semiconductor; PartNumber: SD05T1; Direction: Unidirectional; IR Max (uA): 10; PPK Max (W): 350; DatasheetVersion: Rev. 2; PackageVersion: Rev. G, 02/2005; PackageReference: SOD-323-2-477-02_G; PackageDescription: 2-Pin SOD, Body 1.7 x 1.25 mm; Supplier 1: Digi-Key; Supplier Part Number 1: SD05T1OSTR-ND; Supplier 2: Digi-Key; Supplier Part Number 2: SD05T1OSCT-ND; Packing: Tape and Reel; Mounting Technology: Surface Mount; ComponentLink1Description: Manufacturer URL; ComponentLink1URL: http://www.onsemi.com/; ComponentLink2Description: Datasheet; ComponentLink2URL: http://www.onsemi.com/pub_link/Collateral/SD05T1-D.PDF; ComponentLink3Description: Package Specification; ComponentLink3URL: http://www.onsemi.com/pub_link/Collateral/SD05T1-D.PDF
footprint ONSC-SOD-323-2-477-02_G_V (SOD, 2-Leads, Body 1.7x1.25mm)
pins: 1 K, 2 A

## SD05T1G
designator D?
Transient Voltage Suppressor Diode, for ESD Protection, 2-Pin SOD-323, Pb-Free, Tape and Reel; Manufacturer: On Semiconductor; PartNumber: SD05T1G; Direction: Unidirectional; IR Max (uA): 10; PPK Max (W): 350; DatasheetVersion: Rev. 2; PackageVersion: Rev. G, 02/2005; PackageReference: SOD-323-2-477-02_G; PackageDescription: 2-Pin SOD, Body 1.7 x 1.25 mm; Supplier 1: Digi-Key; Supplier Part Number 1: SD05T1GOSTR-ND; Supplier 2: Digi-Key; Supplier Part Number 2: SD05T1GOSCT-ND; Supplier 3: Digi-Key; Supplier Part Number 3: SD05T1GOSDKR-ND; Supplier 4: Farnell; Supplier Part Number 4: 2317788; Supplier 5: Newark; Supplier Part Number 5: 45J2256; Supplier 6: Newark; Supplier Part Number 6: 10N9602; Supplier 7: Mouser; Supplier Part Number 7: 863-SD05T1G; Packing: Tape and Reel; RoHS: Pb-Free; Mounting Technology: Surface Mount; ComponentLink1Description: Manufacturer URL; ComponentLink1URL: http://www.onsemi.com/; ComponentLink2Description: Datasheet; ComponentLink2URL: http://www.onsemi.com/pub_link/Collateral/SD05T1-D.PDF; ComponentLink3Description: Package Specification; ComponentLink3URL: http://www.onsemi.com/pub_link/Collateral/SD05T1-D.PDF
footprint ONSC-SOD-323-2-477-02_G_V (SOD, 2-Leads, Body 1.7x1.25mm)
pins: 1 K, 2 A

## SD05T3G
designator D?
Transient Voltage Suppressor Diode, for ESD Protection, 2-Pin SOD-323, Pb-Free, Tape and Reel; Manufacturer: On Semiconductor; PartNumber: SD05T3G; Direction: Unidirectional; IR Max (uA): 10; PPK Max (W): 350; DatasheetVersion: Rev. 2; PackageVersion: Rev. G, 02/2005; PackageReference: SOD-323-2-477-02_G; PackageDescription: 2-Pin SOD, Body 1.7 x 1.25 mm; Supplier 1: Mouser; Supplier Part Number 1: 863-SD05T3G; Packing: Tape and Reel; RoHS: Pb-Free; Mounting Technology: Surface Mount; ComponentLink1Description: Manufacturer URL; ComponentLink1URL: http://www.onsemi.com/; ComponentLink2Description: Datasheet; ComponentLink2URL: http://www.onsemi.com/pub_link/Collateral/SD05T1-D.PDF; ComponentLink3Description: Package Specification; ComponentLink3URL: http://www.onsemi.com/pub_link/Collateral/SD05T1-D.PDF
footprint ONSC-SOD-323-2-477-02_G_V (SOD, 2-Leads, Body 1.7x1.25mm)
pins: 1 K, 2 A

## SD12T1
designator D?
Transient Voltage Suppressor Diode, for ESD Protection, 2-Pin SOD-323, Tape and Reel; Manufacturer: On Semiconductor; PartNumber: SD12T1; Direction: Unidirectional; IR Max (uA): 1; PPK Max (W): 350; DatasheetVersion: Rev. 2; PackageVersion: Rev. G, 02/2005; PackageReference: SOD-323-2-477-02_G; PackageDescription: 2-Pin SOD, Body 1.7 x 1.25 mm; Supplier 1: Digi-Key; Supplier Part Number 1: SD12T1OSTR-ND; Supplier 2: Digi-Key; Supplier Part Number 2: SD12T1OSCT-ND; Packing: Tape and Reel; Mounting Technology: Surface Mount; ComponentLink1Description: Manufacturer URL; ComponentLink1URL: http://www.onsemi.com/; ComponentLink2Description: Datasheet; ComponentLink2URL: http://www.onsemi.com/pub_link/Collateral/SD05T1-D.PDF; ComponentLink3Description: Package Specification; ComponentLink3URL: http://www.onsemi.com/pub_link/Collateral/SD05T1-D.PDF
footprint ONSC-SOD-323-2-477-02_G_V (SOD, 2-Leads, Body 1.7x1.25mm)
pins: 1 K, 2 A

## SD12T1G
designator D?
Transient Voltage Suppressor Diode, for ESD Protection, 2-Pin SOD-323, Pb-Free, Tape and Reel; Manufacturer: On Semiconductor; PartNumber: SD12T1G; Direction: Unidirectional; IR Max (uA): 1; PPK Max (W): 350; DatasheetVersion: Rev. 2; PackageVersion: Rev. G, 02/2005; PackageReference: SOD-323-2-477-02_G; PackageDescription: 2-Pin SOD, Body 1.7 x 1.25 mm; Supplier 1: Digi-Key; Supplier Part Number 1: SD12T1GOSTR-ND; Supplier 2: Digi-Key; Supplier Part Number 2: SD12T1GOSCT-ND; Supplier 3: Digi-Key; Supplier Part Number 3: SD12T1GOSDKR-ND; Supplier 4: Newark; Supplier Part Number 4: 10N9604; Supplier 5: Newark; Supplier Part Number 5: 45J2257; Supplier 6: Mouser; Supplier Part Number 6: 863-SD12T1G; Packing: Tape and Reel; RoHS: Pb-Free; Mounting Technology: Surface Mount; ComponentLink1Description: Manufacturer URL; ComponentLink1URL: http://www.onsemi.com/; ComponentLink2Description: Datasheet; ComponentLink2URL: http://www.onsemi.com/pub_link/Collateral/SD05T1-D.PDF; ComponentLink3Description: Package Specification; ComponentLink3URL: http://www.onsemi.com/pub_link/Collateral/SD05T1-D.PDF
footprint ONSC-SOD-323-2-477-02_G_V (SOD, 2-Leads, Body 1.7x1.25mm)
pins: 1 K, 2 A

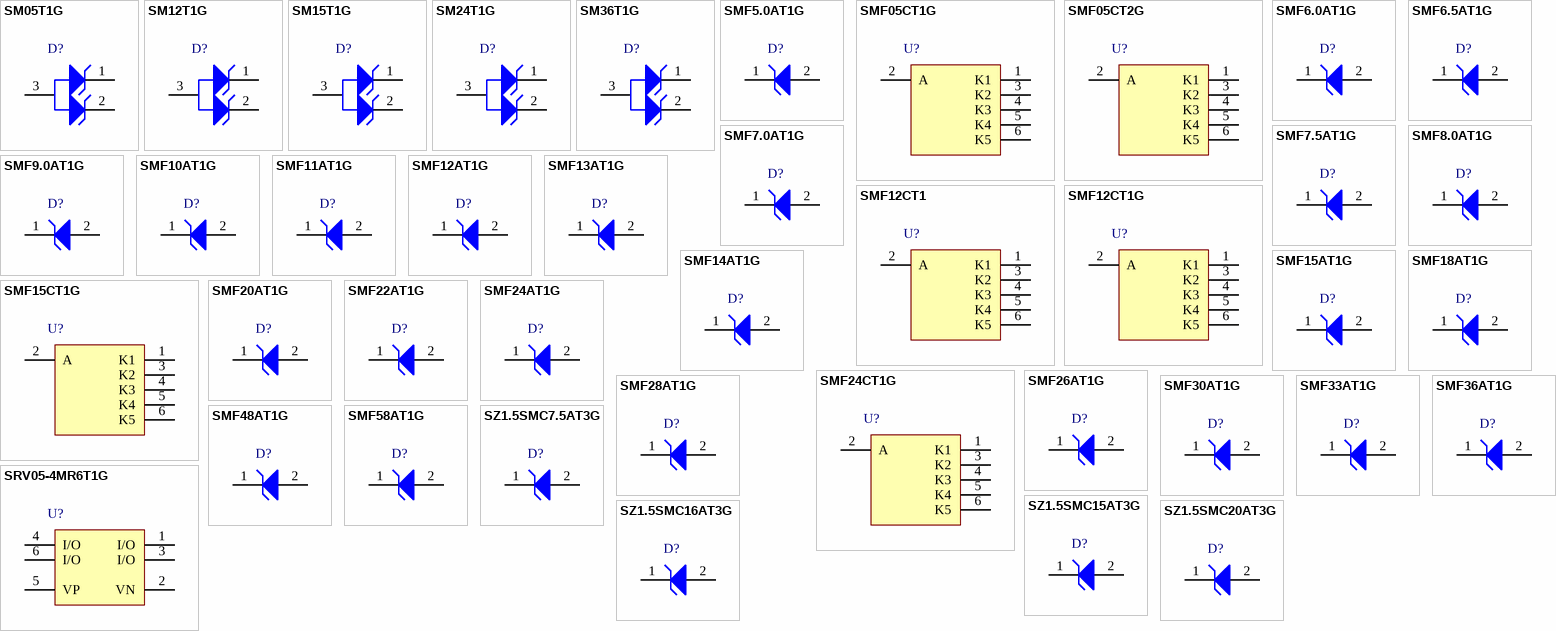
[diagram p14: symbols SM05T1G to SZ1.5SMC20AT3G]

## SM05T1G
designator D?
Transient Voltage Suppressor Diode Array, Dual Common Anode Diodes for ESD Protection, 3-Pin SOT-23, Pb-Free, Tape and Reel; Manufacturer: On Semiconductor; PartNumber: SM05T1G; Direction: Unidirectional; IR Max (uA): 10; PPK Max (W): 300; DatasheetVersion: Rev. 6; PackageVersion: Rev. AP, 11/2009; PackageReference: SOT-23-3-318-08; PackageDescription: 3-Pin Small Outline Transistor, Body 2.92 x 1.3 mm, Pitch 0.95 mm; Supplier 1: Digi-Key; Supplier Part Number 1: SM05T1GOSTR-ND; Supplier 2: Digi-Key; Supplier Part Number 2: SM05T1GOSCT-ND; Supplier 3: Digi-Key; Supplier Part Number 3: SM05T1GOSDKR-ND; Supplier 4: Farnell; Supplier Part Number 4: 2317520; Supplier 5: Farnell; Supplier Part Number 5: 1880534; Supplier 6: Newark; Supplier Part Number 6: 45J2269; Supplier 7: Newark; Supplier Part Number 7: 10N9611; Supplier 8: Mouser; Supplier Part Number 8: 863-SM05T1G; Packing: Tape and Reel; RoHS: Pb-Free; Mounting Technology: Surface Mount; ComponentLink1Description: Manufacturer URL; ComponentLink1URL: http://www.onsemi.com/; ComponentLink2Description: Datasheet; ComponentLink2URL: http://www.onsemi.com/pub_link/Collateral/SM12T1-D.PDF; ComponentLink3Description: Package Specification; ComponentLink3URL: http://www.onsemi.cn/pub_link/Collateral/318-08.PDF
footprint ONSC-SOT-23-3-318-08_V (SOT23, 3-Leads, Body 2.92x1.3mm, Pitch 0.95mm)
pins: 1 K1, 2 K2, 3 A

## SM12T1G
designator D?
Transient Voltage Suppressor Diode Array, Dual Common Anode Diodes for ESD Protection, 3-Pin SOT-23, Pb-Free, Tape and Reel; Manufacturer: On Semiconductor; PartNumber: SM12T1G; Direction: Unidirectional; IR Max (uA): 1; PPK Max (W): 300; DatasheetVersion: Rev. 6; PackageVersion: Rev. AP, 11/2009; PackageReference: SOT-23-3-318-08; PackageDescription: 3-Pin Small Outline Transistor, Body 2.92 x 1.3 mm, Pitch 0.95 mm; Supplier 1: Digi-Key; Supplier Part Number 1: SM12T1GOSTR-ND; Supplier 2: Digi-Key; Supplier Part Number 2: SM12T1GOSCT-ND; Supplier 3: Digi-Key; Supplier Part Number 3: SM12T1GOSDKR-ND; Supplier 4: Farnell; Supplier Part Number 4: 1878535; Supplier 5: Newark; Supplier Part Number 5: 42K2650; Supplier 6: Newark; Supplier Part Number 6: 10N9612; Supplier 7: Mouser; Supplier Part Number 7: 863-SM12T1G; Packing: Tape and Reel; RoHS: Pb-Free; Mounting Technology: Surface Mount; ComponentLink1Description: Manufacturer URL; ComponentLink1URL: http://www.onsemi.com/; ComponentLink2Description: Datasheet; ComponentLink2URL: http://www.onsemi.com/pub_link/Collateral/SM12T1-D.PDF; ComponentLink3Description: Package Specification; ComponentLink3URL: http://www.onsemi.cn/pub_link/Collateral/318-08.PDF
footprint ONSC-SOT-23-3-318-08_V (SOT23, 3-Leads, Body 2.92x1.3mm, Pitch 0.95mm)
pins: 1 K1, 2 K2, 3 A

## SM15T1G
designator D?
Transient Voltage Suppressor Diode Array, Dual Common Anode Diodes for ESD Protection, 3-Pin SOT-23, Pb-Free, Tape and Reel; Manufacturer: On Semiconductor; PartNumber: SM15T1G; Direction: Unidirectional; IR Max (uA): 1; PPK Max (W): 300; DatasheetVersion: Rev. 6; PackageVersion: Rev. AP, 11/2009; PackageReference: SOT-23-3-318-08; PackageDescription: 3-Pin Small Outline Transistor, Body 2.92 x 1.3 mm, Pitch 0.95 mm; Supplier 1: Digi-Key; Supplier Part Number 1: SM15T1G-ND; Supplier 2: Mouser; Supplier Part Number 2: 863-SM15T1G; Packing: Tape and Reel; RoHS: Pb-Free; Mounting Technology: Surface Mount; ComponentLink1Description: Manufacturer URL; ComponentLink1URL: http://www.onsemi.com/; ComponentLink2Description: Datasheet; ComponentLink2URL: http://www.onsemi.com/pub_link/Collateral/SM05T1-D.PDF; ComponentLink3Description: Package Specification; ComponentLink3URL: http://www.onsemi.cn/pub_link/Collateral/318-08.PDF
footprint ONSC-SOT-23-3-318-08_V (SOT23, 3-Leads, Body 2.92x1.3mm, Pitch 0.95mm)
pins: 1 K1, 2 K2, 3 A

## SM24T1G
designator D?
Transient Voltage Suppressor Diode Array, Dual Common Anode Diodes for ESD Protection, 3-Pin SOT-23, Pb-Free, Tape and Reel; Manufacturer: On Semiconductor; PartNumber: SM24T1G; Direction: Unidirectional; IR Max (uA): 1; PPK Max (W): 300; DatasheetVersion: Rev. 6; PackageVersion: Rev. AP, 11/2009; PackageReference: SOT-23-3-318-08; PackageDescription: 3-Pin Small Outline Transistor, Body 2.92 x 1.3 mm, Pitch 0.95 mm; Supplier 1: Digi-Key; Supplier Part Number 1: SM24T1G-ND; Supplier 2: Mouser; Supplier Part Number 2: 863-SM24T1G; Packing: Tape and Reel; RoHS: Pb-Free; Mounting Technology: Surface Mount; ComponentLink1Description: Manufacturer URL; ComponentLink1URL: http://www.onsemi.com/; ComponentLink2Description: Datasheet; ComponentLink2URL: http://www.onsemi.com/pub_link/Collateral/SM05T1-D.PDF; ComponentLink3Description: Package Specification; ComponentLink3URL: http://www.onsemi.cn/pub_link/Collateral/318-08.PDF
footprint ONSC-SOT-23-3-318-08_V (SOT23, 3-Leads, Body 2.92x1.3mm, Pitch 0.95mm)
pins: 1 K1, 2 K2, 3 A

## SM36T1G
designator D?
Transient Voltage Suppressor Diode Array, Dual Common Anode Diodes for ESD Protection, 3-Pin SOT-23, Pb-Free, Tape and Reel; Manufacturer: On Semiconductor; PartNumber: SM36T1G; Direction: Bidirectional; IR Max (uA): 1; PPK Max (W): 300; DatasheetVersion: Rev. 6; PackageVersion: Rev. AP, 11/2009; PackageReference: SOT-23-3-318-08; PackageDescription: 3-Pin Small Outline Transistor, Body 2.92 x 1.3 mm, Pitch 0.95 mm; Supplier 1: Digi-Key; Supplier Part Number 1: SM36T1GOSTR-ND; Supplier 2: Digi-Key; Supplier Part Number 2: SM36T1GOSCT-ND; Supplier 3: Digi-Key; Supplier Part Number 3: SM36T1GOSDKR-ND; Supplier 4: Newark; Supplier Part Number 4: 52T8580; Supplier 5: Mouser; Supplier Part Number 5: 863-SM36T1G; Packing: Tape and Reel; RoHS: Pb-Free; Mounting Technology: Surface Mount; ComponentLink1Description: Manufacturer URL; ComponentLink1URL: http://www.onsemi.com/; ComponentLink2Description: Datasheet; ComponentLink2URL: http://www.onsemi.com/pub_link/Collateral/SM05T1-D.PDF; ComponentLink3Description: Package Specification; ComponentLink3URL: http://www.onsemi.cn/pub_link/Collateral/318-08.PDF
footprint ONSC-SOT-23-3-318-08_V (SOT23, 3-Leads, Body 2.92x1.3mm, Pitch 0.95mm)
pins: 1 K1, 2 K2, 3 A

## SMF5.0AT1G
designator D?
200 W Transient Voltage Suppressor, 2-Pin SOD-123FL, Pb-Free, Tape and Reel; Manufacturer: On Semiconductor; PartNumber: SMF5.0AT1G; Direction: Unidirectional; IR Max (uA): 400; V(BR) Typ (V): 6.7; DatasheetVersion: Rev. 7; PackageVersion: Rev. D, 05/2013; PackageReference: SOD-123FL-2-498; PackageDescription: 2-Pin SOD, Body 1.65 x 2.7 mm; Supplier 1: Digi-Key; Supplier Part Number 1: SMF5.0AT1GOSTR-ND; Supplier 2: Digi-Key; Supplier Part Number 2: SMF5.0AT1GOSCT-ND; Supplier 3: Digi-Key; Supplier Part Number 3: SMF5.0AT1GOSDKR-ND; Supplier 4: Newark; Supplier Part Number 4: 10N9608; Supplier 5: Newark; Supplier Part Number 5: 45J2268; Supplier 6: Mouser; Supplier Part Number 6: 863-SMF5.0AT1G; Packing: Tape and Reel; RoHS: Pb-Free; Mounting Technology: Surface Mount; ComponentLink1Description: Manufacturer URL; ComponentLink1URL: http://www.onsemi.com/; ComponentLink2Description: Datasheet; ComponentLink2URL: http://www.onsemi.com/pub_link/Collateral/SMF5.0AT1-D.PDF; ComponentLink3Description: Package Specification; ComponentLink3URL: http://www.onsemi.com/pub_link/Collateral/498-01.PDF
footprint ONSC-SOD-123FL-2-498_V (SOD, 2-Leads, Body 2.7x1.65mm)
pins: 1 K, 2 A

## SMF05CT1G
designator U?
5-Line Transient Voltage Suppressor Array, 6-Pin SC70, Pb-Free, Tape and Reel; Manufacturer: On Semiconductor; PartNumber: SMF05CT1G; Direction: Unidirectional; IR Max (uA): 5; PPK Max (W): 100; DatasheetVersion: Rev. 4; PackageVersion: Rev. W; PackageReference: SC70-6-419B-02_W; PackageDescription: 6-Pin Small Outline Transistor, Body 2 x 1.25 mm, Pitch 0.65 mm; Supplier 1: Digi-Key; Supplier Part Number 1: SMF05CT1GOSTR-ND; Supplier 2: Digi-Key; Supplier Part Number 2: SMF05CT1GOSCT-ND; Supplier 3: Digi-Key; Supplier Part Number 3: SMF05CT1GOSDKR-ND; Supplier 4: Farnell; Supplier Part Number 4: 1861239; Supplier 5: Newark; Supplier Part Number 5: 10M5715; Supplier 6: Newark; Supplier Part Number 6: 42K2614; Supplier 7: Mouser; Supplier Part Number 7: 863-SMF05CT1G; Packing: Tape and Reel; RoHS: Pb-Free; Mounting Technology: Surface Mount; ComponentLink1Description: Manufacturer URL; ComponentLink1URL: http://www.onsemi.com/; ComponentLink2Description: Datasheet; ComponentLink2URL: http://www.onsemi.com/pub_link/Collateral/SMF05C-D.PDF; ComponentLink3Description: Package Specification; ComponentLink3URL: http://www.onsemi.com/pub_link/Collateral/SMF05C-D.PDF
footprint ONSC-SC70-6-419B-02_W_V (SOT23, 6-Leads, Body 2x1.25mm, Pitch 0.65mm)
pins: 1 K1, 2 A, 3 K2, 4 K3, 5 K4, 6 K5

## SMF05CT2G
designator U?
5-Line Transient Voltage Suppressor Array, 6-Pin SC70, Pb-Free, Tape and Reel; Manufacturer: On Semiconductor; PartNumber: SMF05CT2G; Direction: Unidirectional; IR Max (uA): 5; PPK Max (W): 100; DatasheetVersion: Rev. 4; PackageVersion: Rev. W; PackageReference: SC70-6-419B-02_W; PackageDescription: 6-Pin Small Outline Transistor, Body 2 x 1.25 mm, Pitch 0.65 mm; Supplier 1: Digi-Key; Supplier Part Number 1: SMF05CT2GOSTR-ND; Supplier 2: Digi-Key; Supplier Part Number 2: SMF05CT2GOSCT-ND; Supplier 3: Digi-Key; Supplier Part Number 3: SMF05CT2GOSDKR-ND; Supplier 4: Farnell; Supplier Part Number 4: 2317486; Supplier 5: Newark; Supplier Part Number 5: 09R9713; Supplier 6: Newark; Supplier Part Number 6: 45J2265; Supplier 7: Mouser; Supplier Part Number 7: 863-SMF05CT2G; Packing: Tape and Reel; RoHS: Pb-Free; Mounting Technology: Surface Mount; ComponentLink1Description: Manufacturer URL; ComponentLink1URL: http://www.onsemi.com/; ComponentLink2Description: Datasheet; ComponentLink2URL: http://www.onsemi.com/pub_link/Collateral/SMF05C-D.PDF; ComponentLink3Description: Package Specification; ComponentLink3URL: http://www.onsemi.com/pub_link/Collateral/SMF05C-D.PDF
footprint ONSC-SC70-6-419B-02_W_V (SOT23, 6-Leads, Body 2x1.25mm, Pitch 0.65mm)
pins: 1 K1, 2 A, 3 K2, 4 K3, 5 K4, 6 K5

## SMF6.0AT1G
designator D?
200 W Transient Voltage Suppressor, 2-Pin SOD-123FL, Pb-Free, Tape and Reel; Manufacturer: On Semiconductor; PartNumber: SMF6.0AT1G; Direction: Unidirectional; IR Max (uA): 400; V(BR) Typ (V): 7.02; DatasheetVersion: Rev. 7; PackageVersion: Rev. D, 05/2013; PackageReference: SOD-123FL-2-498; PackageDescription: 2-Pin SOD, Body 1.65 x 2.7 mm; Supplier 1: Digi-Key; Supplier Part Number 1: SMF6.0AT1GOSTR-ND; Supplier 2: Digi-Key; Supplier Part Number 2: SMF6.0AT1GOSCT-ND; Supplier 3: Newark; Supplier Part Number 3: 42K2637; Supplier 4: Mouser; Supplier Part Number 4: 863-SMF6.0AT1G; Packing: Tape and Reel; RoHS: Pb-Free; Mounting Technology: Surface Mount; ComponentLink1Description: Manufacturer URL; ComponentLink1URL: http://www.onsemi.com/; ComponentLink2Description: Datasheet; ComponentLink2URL: http://www.onsemi.com/pub_link/Collateral/SMF5.0AT1-D.PDF; ComponentLink3Description: Package Specification; ComponentLink3URL: http://www.onsemi.com/pub_link/Collateral/498-01.PDF
footprint ONSC-SOD-123FL-2-498_V (SOD, 2-Leads, Body 2.7x1.65mm)
pins: 1 K, 2 A

## SMF6.5AT1G
designator D?
200 W Transient Voltage Suppressor, 2-Pin SOD-123FL, Pb-Free, Tape and Reel; Manufacturer: On Semiconductor; PartNumber: SMF6.5AT1G; Direction: Unidirectional; IR Max (uA): 250; V(BR) Typ (V): 7.6; DatasheetVersion: Rev. 7; PackageVersion: Rev. D, 05/2013; PackageReference: SOD-123FL-2-498; PackageDescription: 2-Pin SOD, Body 1.65 x 2.7 mm; Supplier 1: Digi-Key; Supplier Part Number 1: SMF6.5AT1GOS-ND; Supplier 2: Mouser; Supplier Part Number 2: 863-SMF6.5AT1G; Packing: Tape and Reel; RoHS: Pb-Free; Mounting Technology: Surface Mount; ComponentLink1Description: Manufacturer URL; ComponentLink1URL: http://www.onsemi.com/; ComponentLink2Description: Datasheet; ComponentLink2URL: http://www.onsemi.com/pub_link/Collateral/SMF5.0AT1-D.PDF; ComponentLink3Description: Package Specification; ComponentLink3URL: http://www.onsemi.com/pub_link/Collateral/498-01.PDF
footprint ONSC-SOD-123FL-2-498_V (SOD, 2-Leads, Body 2.7x1.65mm)
pins: 1 K, 2 A

## SMF7.0AT1G
designator D?
200 W Transient Voltage Suppressor, 2-Pin SOD-123FL, Pb-Free, Tape and Reel; Manufacturer: On Semiconductor; PartNumber: SMF7.0AT1G; Direction: Unidirectional; IR Max (uA): 100; V(BR) Typ (V): 8.2; DatasheetVersion: Rev. 7; PackageVersion: Rev. D, 05/2013; PackageReference: SOD-123FL-2-498; PackageDescription: 2-Pin SOD, Body 1.65 x 2.7 mm; Supplier 1: Digi-Key; Supplier Part Number 1: SMF7.0AT1G-ND; Supplier 2: Mouser; Supplier Part Number 2: 863-SMF7.0AT1G; Packing: Tape and Reel; RoHS: Pb-Free; Mounting Technology: Surface Mount; ComponentLink1Description: Manufacturer URL; ComponentLink1URL: http://www.onsemi.com/; ComponentLink2Description: Datasheet; ComponentLink2URL: http://www.onsemi.com/pub_link/Collateral/SMF5.0AT1-D.PDF; ComponentLink3Description: Package Specification; ComponentLink3URL: http://www.onsemi.com/pub_link/Collateral/498-01.PDF
footprint ONSC-SOD-123FL-2-498_V (SOD, 2-Leads, Body 2.7x1.65mm)
pins: 1 K, 2 A

## SMF7.5AT1G
designator D?
200 W Transient Voltage Suppressor, 2-Pin SOD-123FL, Pb-Free, Tape and Reel; Manufacturer: On Semiconductor; PartNumber: SMF7.5AT1G; Direction: Unidirectional; IR Max (uA): 50; V(BR) Typ (V): 8.77; DatasheetVersion: Rev. 7; PackageVersion: Rev. D, 05/2013; PackageReference: SOD-123FL-2-498; PackageDescription: 2-Pin SOD, Body 1.65 x 2.7 mm; Supplier 1: Digi-Key; Supplier Part Number 1: SMF7.5AT1G-ND; Supplier 2: Mouser; Supplier Part Number 2: 863-SMF7.5AT1G; Packing: Tape and Reel; RoHS: Pb-Free; Mounting Technology: Surface Mount; ComponentLink1Description: Manufacturer URL; ComponentLink1URL: http://www.onsemi.com/; ComponentLink2Description: Datasheet; ComponentLink2URL: http://www.onsemi.com/pub_link/Collateral/SMF5.0AT1-D.PDF; ComponentLink3Description: Package Specification; ComponentLink3URL: http://www.onsemi.com/pub_link/Collateral/498-01.PDF
footprint ONSC-SOD-123FL-2-498_V (SOD, 2-Leads, Body 2.7x1.65mm)
pins: 1 K, 2 A

## SMF8.0AT1G
designator D?
200 W Transient Voltage Suppressor, 2-Pin SOD-123FL, Pb-Free, Tape and Reel; Manufacturer: On Semiconductor; PartNumber: SMF8.0AT1G; Direction: Unidirectional; IR Max (uA): 25; V(BR) Typ (V): 9.36; DatasheetVersion: Rev. 7; PackageVersion: Rev. D, 05/2013; PackageReference: SOD-123FL-2-498; PackageDescription: 2-Pin SOD, Body 1.65 x 2.7 mm; Supplier 1: Digi-Key; Supplier Part Number 1: SMF8.0AT1GOSTR-ND; Supplier 2: Digi-Key; Supplier Part Number 2: SMF8.0AT1GOSCT-ND; Supplier 3: Mouser; Supplier Part Number 3: 863-SMF8.0AT1G; Packing: Tape and Reel; RoHS: Pb-Free; Mounting Technology: Surface Mount; ComponentLink1Description: Manufacturer URL; ComponentLink1URL: http://www.onsemi.com/; ComponentLink2Description: Datasheet; ComponentLink2URL: http://www.onsemi.com/pub_link/Collateral/SMF5.0AT1-D.PDF; ComponentLink3Description: Package Specification; ComponentLink3URL: http://www.onsemi.com/pub_link/Collateral/498-01.PDF
footprint ONSC-SOD-123FL-2-498_V (SOD, 2-Leads, Body 2.7x1.65mm)
pins: 1 K, 2 A

## SMF9.0AT1G
designator D?
200 W Transient Voltage Suppressor, 2-Pin SOD-123FL, Pb-Free, Tape and Reel; Manufacturer: On Semiconductor; PartNumber: SMF9.0AT1G; Direction: Unidirectional; IR Max (uA): 5; V(BR) Typ (V): 10.55; DatasheetVersion: Rev. 7; PackageVersion: Rev. D, 05/2013; PackageReference: SOD-123FL-2-498; PackageDescription: 2-Pin SOD, Body 1.65 x 2.7 mm; Supplier 1: Digi-Key; Supplier Part Number 1: SMF9.0AT1GOSCT-ND; Supplier 2: Newark; Supplier Part Number 2: 52R8740; Supplier 3: Mouser; Supplier Part Number 3: 863-SMF9.0AT1G; Packing: Tape and Reel; RoHS: Pb-Free; Mounting Technology: Surface Mount; ComponentLink1Description: Manufacturer URL; ComponentLink1URL: http://www.onsemi.com/; ComponentLink2Description: Datasheet; ComponentLink2URL: http://www.onsemi.com/pub_link/Collateral/SMF5.0AT1-D.PDF; ComponentLink3Description: Package Specification; ComponentLink3URL: http://www.onsemi.com/pub_link/Collateral/498-01.PDF
footprint ONSC-SOD-123FL-2-498_V (SOD, 2-Leads, Body 2.7x1.65mm)
pins: 1 K, 2 A